# Altium footprint library op_amp.PcbLib: 1 footprints
Each footprint in its own frame and in the unit in brackets; x right, y up, seen from the top. Pads: shape width x height; smd on the part's side, far side on the other; paste and mask are expansions set on the pad; w line width, h text height; cw(c..) or ccw(c..) is an arc to the next point about the centre after c.
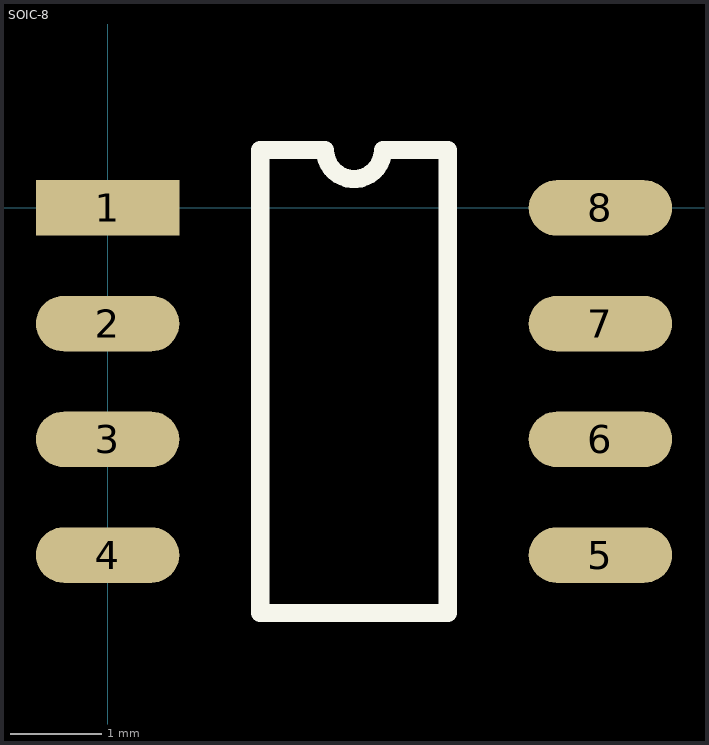
[diagram p0: the footprint, top view; thin cyan lines are the x and y axes]

## SOIC-8 [mil]
pads (8):
  rect 62x24 smd: 1(0,0)
  oval 62x24 smd: 2(0,-50) 3(0,-100) 4(0,-150) 5(213,-150) 6(213,-100) 7(213,-50) 8(213,0)
Top Overlay:
  lines w7.87: 66,-175 66,25 94,25 ccw(c106.5,25) 119,25 147,25 147,-175 66,-175
3D body "User Library-SOIC8_JEDEC_MS-012AA.step": height 68.7, standoff -0.31, extent -17.03,-173.43 227.04,23.42